# Altium schematic symbol library B3U-1100P.Schlib: 1 symbol
Pins are listed as number, name and electrical type; pins without a type are passive.

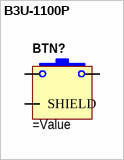
[diagram p0: symbol B3U-1100P]

## B3U-1100P
designator BTN?
SWITCH TACTILE SPST-NO 0.05A 12V
pins: 1, 2, S SHIELD